# EAGLE library part TEMPLATE_ARGON (library voltera_EAGLE_community_lib)
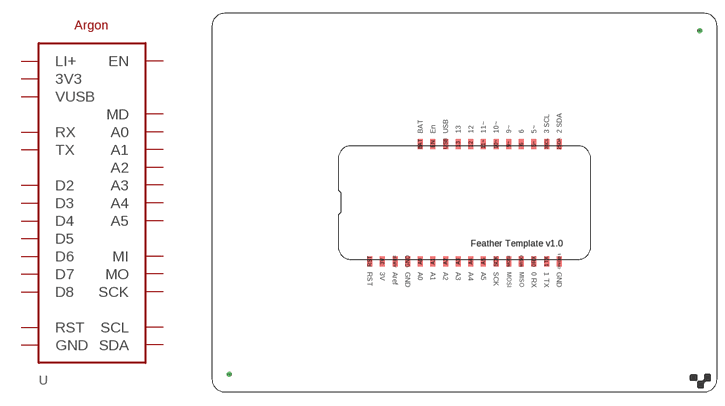
[diagram p7: symbol with the pads of FEATHER; footprint FEATHER]

Designator prefix -

## TEMPLATE_ARGON  [FEATHER]
0RX  RX
1TX  TX
2SDA  SDA
3SCL  SCL
3V  3V3
5~  D2
6  D3
9~  D4
10~  D5
11~  D6
12  D7
13  D8
A0  A0
A1  A1
A2  A2
A3  A3
A4  A4
A5  A5
AREF  MD
BAT  LI+
EN  EN
GND  GND
MISO  MI
MOSI  MO
RST  RST
SCK  SCK
USB  VUSB

## Footprint FEATHER (pad centres in mm)
smd 1.016 x 2.032: 0RX 64.77,26.289; 1TX 67.31,26.289; 2SDA 69.85,49.93; 3SCL 67.31,49.93; 3V 34.29,26.289; 5~ 64.77,49.93; 6 62.23,49.93; 9~ 59.69,49.93; 10~ 57.15,49.93; 11~ 54.61,49.93; 12 52.07,49.93; 13 49.53,49.93; A0 41.91,26.289; A1 44.45,26.289; A2 46.99,26.289; A3 49.53,26.289; A4 52.07,26.289; A5 54.61,26.289; AREF 36.83,26.289; BAT 41.91,49.93; EN 44.45,49.93; GND 39.37,26.289; GND@1 69.85,26.289; MISO 62.23,26.289; MOSI 59.69,26.289; RST 31.75,26.289; SCK 57.15,26.289; USB 46.99,49.93
drill 0.3 pad 1: P$1 3.5,3.5; P$2 98.1,72.7